# Altium footprint library DIP-CN  0607.PcbLib: 329 footprints (part 4 of 21)
Each footprint in its own frame and in the unit in brackets; x right, y up, seen from the top. Pads: shape width x height; smd on the part's side, far side on the other; paste and mask are expansions set on the pad; w line width, h text height; cw(c..) or ccw(c..) is an arc to the next point about the centre after c.
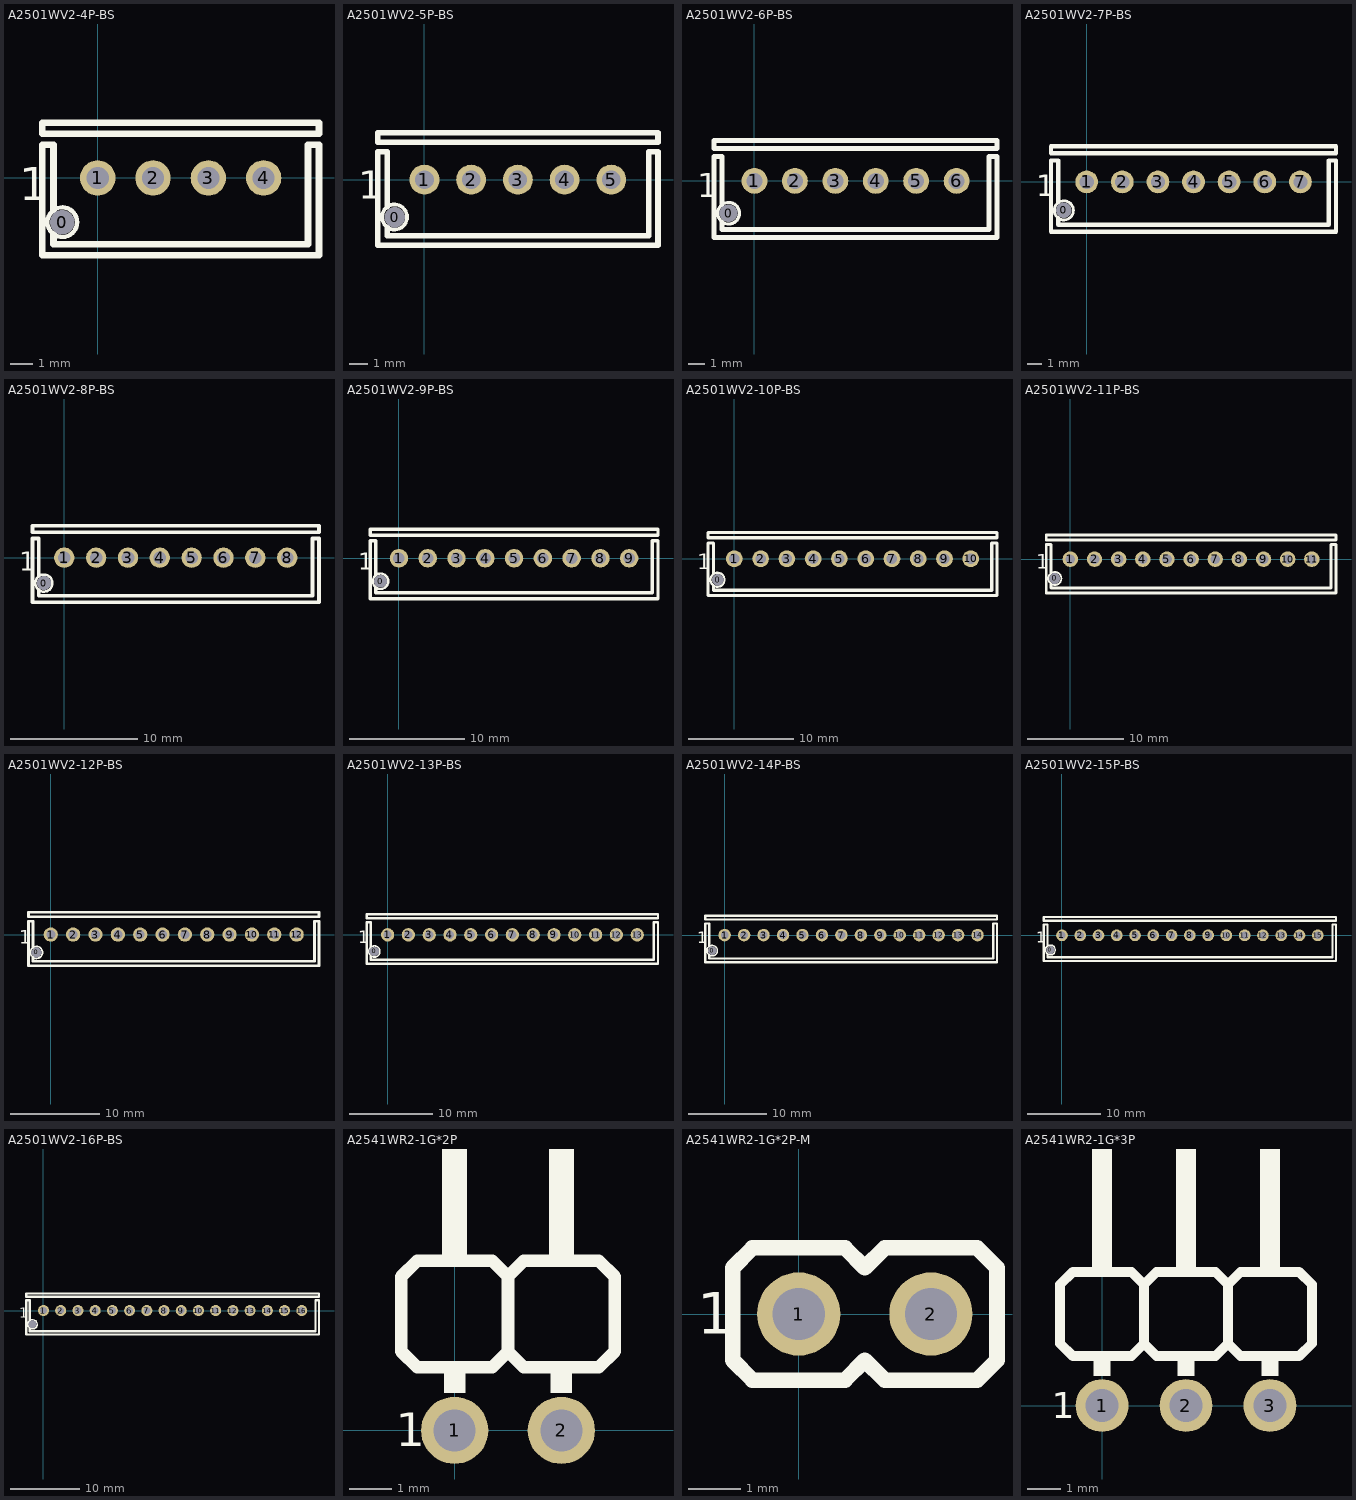
[diagram p3: the footprints below, top view; thin cyan lines are the x and y axes]

## A2501WV2-4P-BS [mm]
pads (5):
  round 1 hole 1.1 unplated: 0(-1.6,-2)
  round 1.6 hole 1: 1(0,0) 2(2.5,0) 3(5,0) 4(7.5,0)
TopOverlay:
  circle w0.2: c-1.6,-2 r0.671
  lines w0.3: -2,-2.55 -2,-3 9.5,-3 9.5,1.5 10,1.5 10,-3.5 -2.5,-3.5 -2.5,1.5 -2,1.5 -2,-1.45 ; -2.5,2 -2.5,2.5 10,2.5 10,2 -2.5,2
  text "1" at -3.556,-1.016 h1.5
BottomOverlay:
  lines w0.3: 1.27,-1.009 1.27,0.991 ; 3.759,-1.016 3.759,0.984 ; 6.259,-1.016 6.259,0.984

## A2501WV2-5P-BS [mm]
pads (6):
  round 1 hole 1.1 unplated: 0(-1.6,-2)
  round 1.6 hole 1: 1(0,0) 2(2.5,0) 3(5,0) 4(7.5,0) 5(10,0)
TopOverlay:
  circle w0.2: c-1.6,-2 r0.671
  lines w0.3: -2,-2.55 -2,-3 12,-3 12,1.5 12.5,1.5 12.5,-3.5 -2.5,-3.5 -2.5,1.5 -2,1.5 -2,-1.45 ; -2.5,2 -2.5,2.5 12.5,2.5 12.5,2 -2.5,2
  text "1" at -3.556,-1.016 h1.5
BottomOverlay:
  lines w0.3: 1.27,-1.009 1.27,0.991 ; 3.759,-1.016 3.759,0.984 ; 6.259,-1.016 6.259,0.984 ; 8.759,-1.016 8.759,0.984

## A2501WV2-6P-BS [mm]
pads (7):
  round 1 hole 1.1 unplated: 0(-1.6,-2)
  round 1.6 hole 1: 1(0,0) 2(2.5,0) 3(5,0) 4(7.5,0) 5(10,0) 6(12.5,0)
TopOverlay:
  circle w0.2: c-1.6,-2 r0.671
  lines w0.3: -2,-2.55 -2,-3 14.5,-3 14.5,1.5 15,1.5 15,-3.5 -2.5,-3.5 -2.5,1.5 -2,1.5 -2,-1.45 ; -2.5,2 15,2 15,2.5 -2.5,2.5 -2.5,2
  text "1" at -3.556,-1.016 h1.5
BottomOverlay:
  lines w0.3: 1.27,-1.009 1.27,0.991 ; 3.759,-1.016 3.759,0.984 ; 6.259,-1.016 6.259,0.984 ; 8.759,-1.016 8.759,0.984 ; 11.259,-1.016 11.259,0.984

## A2501WV2-7P-BS [mm]
pads (8):
  round 1 hole 1.1 unplated: 0(-1.6,-2)
  round 1.6 hole 1: 1(0,0) 2(2.5,0) 3(5,0) 4(7.5,0) 5(10,0) 6(12.5,0) 7(15,0)
TopOverlay:
  circle w0.2: c-1.6,-2 r0.671
  lines w0.3: -2,-2.55 -2,-3 17,-3 17,1.5 17.5,1.5 17.5,-3.5 -2.5,-3.5 -2.5,1.5 -2,1.5 -2,-1.45 ; -2.5,2 -2.5,2.5 17.5,2.5 17.5,2 -2.5,2
  text "1" at -3.556,-1.016 h1.5
BottomOverlay:
  lines w0.3: 1.27,-1.009 1.27,0.991 ; 3.759,-1.016 3.759,0.984 ; 6.259,-1.016 6.259,0.984 ; 8.759,-1.016 8.759,0.984 ; 11.259,-1.016 11.259,0.984 ; 13.759,-1.016 13.759,0.984

## A2501WV2-8P-BS [mm]
pads (9):
  round 1 hole 1.1 unplated: 0(-1.6,-2)
  round 1.6 hole 1: 1(0,0) 2(2.5,0) 3(5,0) 4(7.5,0) 5(10,0) 6(12.5,0) 7(15,0) 8(17.5,0)
TopOverlay:
  circle w0.2: c-1.6,-2 r0.671
  lines w0.3: -2,-2.55 -2,-3 19.5,-3 19.5,1.5 20,1.5 20,-3.5 -2.5,-3.5 -2.5,1.5 -2,1.5 -2,-1.45 ; -2.5,2 20,2 20,2.5 -2.5,2.5 -2.5,2
  text "1" at -3.556,-1.016 h1.5
BottomOverlay:
  lines w0.3: 1.27,-1.009 1.27,0.991 ; 3.759,-1.016 3.759,0.984 ; 6.259,-1.016 6.259,0.984 ; 8.759,-1.016 8.759,0.984 ; 11.259,-1.016 11.259,0.984 ; 13.759,-1.016 13.759,0.984 ; 16.259,-1.016 16.259,0.984

## A2501WV2-9P-BS [mm]
pads (10):
  round 1 hole 1.1 unplated: 0(-1.6,-2)
  round 1.6 hole 1: 1(0,0) 2(2.5,0) 3(5,0) 4(7.5,0) 5(10,0) 6(12.5,0) 7(15,0) 8(17.5,0) 9(20,0)
TopOverlay:
  circle w0.2: c-1.6,-2 r0.671
  lines w0.3: -2,-2.55 -2,-3 22,-3 22,1.5 22.5,1.5 22.5,-3.5 -2.5,-3.5 -2.5,1.5 -2,1.5 -2,-1.45 ; -2.5,2 22.5,2 22.5,2.5 -2.5,2.5 -2.5,2
  text "1" at -3.556,-1.016 h1.5
BottomOverlay:
  lines w0.3: 1.27,-1.009 1.27,0.991 ; 3.759,-1.016 3.759,0.984 ; 6.259,-1.016 6.259,0.984 ; 8.759,-1.016 8.759,0.984 ; 11.259,-1.016 11.259,0.984 ; 13.759,-1.016 13.759,0.984 ; 16.259,-1.016 16.259,0.984 ; 18.759,-1.016 18.759,0.984

## A2501WV2-10P-BS [mm]
pads (11):
  round 1 hole 1.1 unplated: 0(-1.6,-2)
  round 1.6 hole 1: 1(0,0) 2(2.5,0) 3(5,0) 4(7.5,0) 5(10,0) 6(12.5,0) 7(15,0) 8(17.5,0) 9(20,0) 10(22.5,0)
TopOverlay:
  circle w0.2: c-1.6,-2 r0.671
  lines w0.3: -2,-2.55 -2,-3 24.5,-3 24.5,1.5 25,1.5 25,-3.5 -2.5,-3.5 -2.5,1.5 -2,1.5 -2,-1.45 ; -2.5,2 -2.5,2.5 25,2.5 25,2 -2.5,2
  text "1" at -3.556,-1.016 h1.5
BottomOverlay:
  lines w0.3: 1.27,-1.009 1.27,0.991 ; 3.759,-1.016 3.759,0.984 ; 6.259,-1.016 6.259,0.984 ; 8.759,-1.016 8.759,0.984 ; 11.259,-1.016 11.259,0.984 ; 13.759,-1.016 13.759,0.984 ; 16.259,-1.016 16.259,0.984 ; 18.759,-1.016 18.759,0.984 ; 21.259,-1.016 21.259,0.984

## A2501WV2-11P-BS [mm]
pads (12):
  round 1 hole 1.1 unplated: 0(-1.6,-2)
  round 1.6 hole 1: 1(0,0) 2(2.5,0) 3(5,0) 4(7.5,0) 5(10,0) 6(12.5,0) 7(15,0) 8(17.5,0) 9(20,0) 10(22.5,0) 11(25,0)
TopOverlay:
  circle w0.2: c-1.6,-2 r0.671
  lines w0.3: -2,-2.55 -2,-3 27,-3 27,1.5 27.5,1.5 27.5,-3.5 -2.5,-3.5 -2.5,1.5 -2,1.5 -2,-1.45 ; -2.5,2 27.5,2 27.5,2.5 -2.5,2.5 -2.5,2
  text "1" at -3.556,-1.016 h1.5
BottomOverlay:
  lines w0.3: 1.27,-1.009 1.27,0.991 ; 3.759,-1.016 3.759,0.984 ; 6.259,-1.016 6.259,0.984 ; 8.759,-1.016 8.759,0.984 ; 11.259,-1.016 11.259,0.984 ; 13.759,-1.016 13.759,0.984 ; 16.259,-1.016 16.259,0.984 ; 18.759,-1.016 18.759,0.984 ; 21.259,-1.016 21.259,0.984 ; 23.759,-1.016 23.759,0.984

## A2501WV2-12P-BS [mm]
pads (13):
  round 1 hole 1.1 unplated: 0(-1.6,-2)
  round 1.6 hole 1: 1(0,0) 2(2.5,0) 3(5,0) 4(7.5,0) 5(10,0) 6(12.5,0) 7(15,0) 8(17.5,0) 9(20,0) 10(22.5,0) 11(25,0) 12(27.5,0)
TopOverlay:
  circle w0.2: c-1.6,-2 r0.671
  lines w0.3: -2,-2.55 -2,-3 29.5,-3 29.5,1.5 30,1.5 30,-3.5 -2.5,-3.5 -2.5,1.5 -2,1.5 -2,-1.45 ; -2.5,2 -2.5,2.5 30,2.5 30,2 -2.5,2
  text "1" at -3.556,-1.016 h1.5
BottomOverlay:
  lines w0.3: 1.27,-1.009 1.27,0.991 ; 3.759,-1.016 3.759,0.984 ; 6.259,-1.016 6.259,0.984 ; 8.759,-1.016 8.759,0.984 ; 11.259,-1.016 11.259,0.984 ; 13.759,-1.016 13.759,0.984 ; 16.259,-1.016 16.259,0.984 ; 18.759,-1.016 18.759,0.984 ; 21.259,-1.016 21.259,0.984 ; 23.759,-1.016 23.759,0.984 ; 26.259,-1.016 26.259,0.984

## A2501WV2-13P-BS [mm]
pads (14):
  round 1 hole 1.1 unplated: 0(-1.6,-2)
  round 1.6 hole 1: 1(0,0) 2(2.5,0) 3(5,0) 4(7.5,0) 5(10,0) 6(12.5,0) 7(15,0) 8(17.5,0) 9(20,0) 10(22.5,0) 11(25,0) 12(27.5,0) 13(30,0)
TopOverlay:
  circle w0.2: c-1.6,-2 r0.671
  lines w0.3: -2,-2.55 -2,-3 32,-3 32,1.5 32.5,1.5 32.5,-3.5 -2.5,-3.5 -2.5,1.5 -2,1.5 -2,-1.45 ; -2.5,2 -2.5,2.5 32.5,2.5 32.5,2 -2.5,2
  text "1" at -3.556,-1.016 h1.5
BottomOverlay:
  lines w0.3: 1.27,-1.009 1.27,0.991 ; 3.759,-1.016 3.759,0.984 ; 6.259,-1.016 6.259,0.984 ; 8.759,-1.016 8.759,0.984 ; 11.259,-1.016 11.259,0.984 ; 13.759,-1.016 13.759,0.984 ; 16.259,-1.016 16.259,0.984 ; 18.759,-1.016 18.759,0.984 ; 21.259,-1.016 21.259,0.984 ; 23.759,-1.016 23.759,0.984 ; 26.259,-1.016 26.259,0.984 ; 28.759,-1.016 28.759,0.984

## A2501WV2-14P-BS [mm]
pads (15):
  round 1 hole 1.1 unplated: 0(-1.6,-2)
  round 1.6 hole 1: 1(0,0) 2(2.5,0) 3(5,0) 4(7.5,0) 5(10,0) 6(12.5,0) 7(15,0) 8(17.5,0) 9(20,0) 10(22.5,0) 11(25,0) 12(27.5,0) 13(30,0) 14(32.5,0)
TopOverlay:
  circle w0.2: c-1.6,-2 r0.671
  lines w0.3: -2,-2.55 -2,-3 34.5,-3 34.5,1.5 35,1.5 35,-3.5 -2.5,-3.5 -2.5,1.5 -2,1.5 -2,-1.45 ; -2.5,2 35,2 35,2.5 -2.5,2.5 -2.5,2
  text "1" at -3.556,-1.016 h1.5
BottomOverlay:
  lines w0.3: 1.27,-1.009 1.27,0.991 ; 3.759,-1.016 3.759,0.984 ; 6.259,-1.016 6.259,0.984 ; 8.759,-1.016 8.759,0.984 ; 11.259,-1.016 11.259,0.984 ; 13.759,-1.016 13.759,0.984 ; 16.259,-1.016 16.259,0.984 ; 18.759,-1.016 18.759,0.984 ; 21.259,-1.016 21.259,0.984 ; 23.759,-1.016 23.759,0.984 ; 26.259,-1.016 26.259,0.984 ; 28.759,-1.016 28.759,0.984 ; 31.259,-1.016 31.259,0.984

## A2501WV2-15P-BS [mm]
pads (16):
  round 1 hole 1.1 unplated: 0(-1.6,-2)
  round 1.6 hole 1: 1(0,0) 2(2.5,0) 3(5,0) 4(7.5,0) 5(10,0) 6(12.5,0) 7(15,0) 8(17.5,0) 9(20,0) 10(22.5,0) 11(25,0) 12(27.5,0) 13(30,0) 14(32.5,0) 15(35,0)
TopOverlay:
  circle w0.2: c-1.6,-2 r0.671
  lines w0.3: -2,-2.55 -2,-3 37,-3 37,1.5 37.5,1.5 37.5,-3.5 -2.5,-3.5 -2.5,1.5 -2,1.5 -2,-1.45 ; -2.5,2 -2.5,2.5 37.5,2.5 37.5,2 -2.5,2
  text "1" at -3.556,-1.016 h1.5
BottomOverlay:
  lines w0.3: 1.27,-1.009 1.27,0.991 ; 3.759,-1.016 3.759,0.984 ; 6.259,-1.016 6.259,0.984 ; 8.759,-1.016 8.759,0.984 ; 11.259,-1.016 11.259,0.984 ; 13.759,-1.016 13.759,0.984 ; 16.259,-1.016 16.259,0.984 ; 18.759,-1.016 18.759,0.984 ; 21.259,-1.016 21.259,0.984 ; 23.759,-1.016 23.759,0.984 ; 26.259,-1.016 26.259,0.984 ; 28.759,-1.016 28.759,0.984 ; 31.259,-1.016 31.259,0.984 ; 33.759,-1.016 33.759,0.984

## A2501WV2-16P-BS [mm]
pads (17):
  round 1 hole 1.1 unplated: 0(-1.6,-2)
  round 1.6 hole 1: 1(0,0) 2(2.5,0) 3(5,0) 4(7.5,0) 5(10,0) 6(12.5,0) 7(15,0) 8(17.5,0) 9(20,0) 10(22.5,0) 11(25,0) 12(27.5,0) 13(30,0) 14(32.5,0) 15(35,0) 16(37.5,0)
TopOverlay:
  circle w0.2: c-1.6,-2 r0.671
  lines w0.3: -2.5,-3.5 40,-3.5 40,1.5 39.5,1.5 39.5,-3 -2,-3 -2,-2.55 ; -2.5,-3.5 -2.5,1.5 -2,1.5 -2,-1.45 ; -2.5,2 -2.5,2.5 40,2.5 40,2 -2.5,2
  text "1" at -3.556,-1.016 h1.5
BottomOverlay:
  lines w0.3: 1.27,-1.009 1.27,0.991 ; 3.759,-1.016 3.759,0.984 ; 6.259,-1.016 6.259,0.984 ; 8.759,-1.016 8.759,0.984 ; 11.259,-1.016 11.259,0.984 ; 13.759,-1.016 13.759,0.984 ; 16.259,-1.016 16.259,0.984 ; 18.759,-1.016 18.759,0.984 ; 21.259,-1.016 21.259,0.984 ; 23.759,-1.016 23.759,0.984 ; 26.259,-1.016 26.259,0.984 ; 28.759,-1.016 28.759,0.984 ; 31.259,-1.016 31.259,0.984 ; 33.759,-1.016 33.759,0.984 ; 36.259,-1.016 36.259,0.984

## A2541WR2-1G*2P [mm]
pads (2):
  round 1.6 hole 1: 1(0,0) 2(2.54,0)
TopOverlay:
  rectangle: 2.286,0.889 2.794,1.5
  rectangle: -0.254,0.889 0.254,1.5
  region: 0.3,4.04 0.3,8.04 -0.3,8.04 -0.3,4.04
  region: 2.84,4.04 2.84,8.04 2.24,8.04 2.24,4.04
  lines w0.3: -1.27,1.881 -0.889,1.5 0.889,1.5 1.27,1.881 ; -1.27,1.905 -1.27,3.635 ; -1.27,3.659 -0.889,4.04 0.889,4.04 1.27,3.659 ; 3.81,1.881 3.429,1.5 1.651,1.5 1.27,1.881 ; 3.81,1.905 3.81,3.635 ; 3.81,3.659 3.429,4.04 1.651,4.04 1.27,3.659 ; 1.27,1.881 1.27,3.659 ; 1.27,1.881 1.27,3.659
  text "1" at -1.397,-0.381 h0.8
BottomOverlay:
  lines w0.3: 1.27,-0.762 1.27,0.762

## A2541WR2-1G*2P-M [mm]
pads (2):
  round 1.6 hole 1: 1(0,0) 2(2.54,0)
TopOverlay:
  lines w0.3: -1.27,-0.889 -1.27,0.889 -0.889,1.27 0.889,1.27 1.27,0.889 1.651,1.27 3.429,1.27 3.81,0.889 3.81,-0.889 3.429,-1.27 1.651,-1.27 1.27,-0.889 0.889,-1.27 -0.889,-1.27 -1.27,-0.889
  text "1" at -1.956,-0.381 h0.8
BottomOverlay:
  lines w0.3: 1.27,-0.762 1.27,0.762

## A2541WR2-1G*3P [mm]
pads (3):
  round 1.6 hole 1: 1(0,0) 2(2.54,0) 3(5.08,0)
TopOverlay:
  region: 2.84,4.04 2.84,8.04 2.24,8.04 2.24,4.04
  region: 0.3,4.04 0.3,8.04 -0.3,8.04 -0.3,4.04
  rectangle: -0.254,0.889 0.254,1.5
  rectangle: 2.286,0.889 2.794,1.5
  rectangle: 4.826,0.889 5.334,1.5
  region: 5.38,4.04 5.38,8.04 4.78,8.04 4.78,4.04
  lines w0.3: -1.27,1.881 -0.889,1.5 0.889,1.5 1.27,1.881 ; -1.27,1.905 -1.27,3.635 ; -1.27,3.659 -0.889,4.04 0.889,4.04 1.27,3.659 ; 3.81,1.905 3.81,3.635 ; 1.27,1.881 1.27,3.659 ; 1.27,1.881 1.651,1.5 3.429,1.5 3.81,1.881 4.191,1.5 5.969,1.5 6.35,1.881 ; 1.27,1.881 1.27,3.659 ; 1.27,3.659 1.651,4.04 3.429,4.04 3.81,3.659 4.191,4.04 5.969,4.04 6.35,3.659 ; 6.35,1.881 6.35,3.659 ; 6.35,1.881 6.35,3.659
  text "1" at -1.524,-0.381 h0.8
BottomOverlay:
  lines w0.3: 1.27,-0.762 1.27,0.762 ; 3.81,-0.762 3.81,0.762